# EAGLE library part STMAV340 (library crasbe)
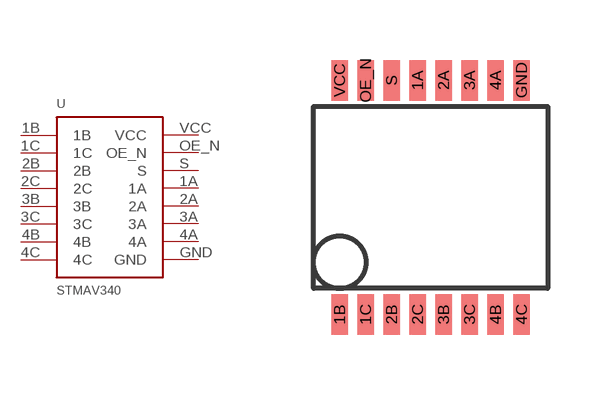
[diagram p3: symbol with the pads of TSSOP16; footprint TSSOP16]

Designator prefix -

## STMAV340  [TSSOP16]
1A  1A
1B  1B
1C  1C
2A  2A
2B  2B
2C  2C
3A  3A
3B  3B
3C  3C
4A  4A
4B  4B
4C  4C
GND  GND  pwr
OE_N  OE_N  in
S  S  in
VCC  VCC  pwr

## Footprint TSSOP16 (pad centres in mm)
smd 0.406 x 1.016: 1A -0.742,2.885; 1B -2.692,-2.967; 1C -2.042,-2.967; 2A -0.091,2.885; 2B -1.392,-2.967; 2C -0.742,-2.967; 3A 0.559,2.885; 3B -0.091,-2.967; 3C 0.559,-2.967; 4A 1.209,2.885; 4B 1.209,-2.967; 4C 1.859,-2.967; GND 1.859,2.885; OE_N -2.042,2.885; S -1.392,2.885; VCC -2.692,2.885